# EAGLE library part MCP2542WFD (library serial_interfaces)
1/1 Transceiver CANbus 8-SOIC
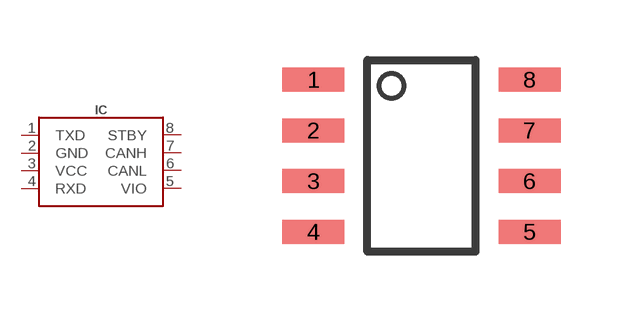
[diagram p4: symbol with the pads of SOIC8-3.9; footprint SOIC8-3.9]

Designator prefix IC

## MCP2542WFD (DIGIKEY#: MCP2542WFD-H/SN-ND; MANF: Microchip Technology; MANF#: MCP2542WFD-H/SN)  [SOIC8-3.9]
1  TXD
2  GND
3  VCC
4  RXD
5  VIO
6  CANL
7  CANH
8  STBY

## Footprint SOIC8-3.9 (pad centres in mm)
https://www.ti.com/lit/ds/snvsaq5a/snvsaq5a.pdf?ts=1602424164509
smd 1.55 x 0.6: 1 -2.7,1.905; 2 -2.7,0.635; 3 -2.7,-0.635; 4 -2.7,-1.905; 5 2.7,-1.905; 6 2.7,-0.635; 7 2.7,0.635; 8 2.7,1.905